# EAGLE library part TQP9111 (library oresat-samacsys_Parts)
RF Amplifier 1.8-2.7GHz Gn 29.8dB P1dB 32.5dBm 2 stage Source: Datasheet <https://componentsearchengine.com/Datasheets/1/TQP9111.pdf>
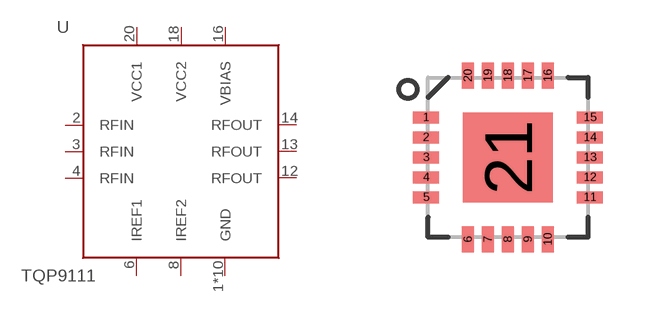
[diagram p0: symbol with the pads of QFN50P400X400X102-21N; footprint QFN50P400X400X102-21N]

Designator prefix U

## TQP9111 (DESCRIPTION: RF Amplifier 1.8-2.7GHz Gn 29.8dB P1dB 32.5dBm 2 stage; HEIGHT: 1.02mm; MFR: Qorvo; MPN: TQP9111)  [QFN50P400X400X102-21N]
1  GND  pwr
2  RFIN  in
3  RFIN  in
4  RFIN  in
5  GND  pwr
6  IREF1  pas
7  GND  pwr
8  IREF2  pas
9  GND  pwr
10  GND  pwr
11  GND  pwr
12  RFOUT  out
13  RFOUT  out
14  RFOUT  out
15  GND  pwr
16  VBIAS  pwr
17  GND  pwr
18  VCC2  pwr
19  GND  pwr
20  VCC1  pwr
21  GND  pwr

## Footprint QFN50P400X400X102-21N (pad centres in mm)
QFN-20
smd 0.65 x 0.3: 1 -2.05,1; 2 -2.05,0.5; 3 -2.05,0; 4 -2.05,-0.5; 5 -2.05,-1; 11 2.05,-1; 12 2.05,-0.5; 13 2.05,0; 14 2.05,0.5; 15 2.05,1
smd 0.3 x 0.65: 6 -1,-2.05; 7 -0.5,-2.05; 8 0,-2.05; 9 0.5,-2.05; 10 1,-2.05; 16 1,2.05; 17 0.5,2.05; 18 0,2.05; 19 -0.5,2.05; 20 -1,2.05
smd 2.25 x 2.25: 21 0,0